# Altium footprint library 112ATAARR03ATTEND.PcbLib: 1 footprints
Each footprint in its own frame and in the unit in brackets; x right, y up, seen from the top. Pads: shape width x height; smd on the part's side, far side on the other; paste and mask are expansions set on the pad; w line width, h text height; cw(c..) or ccw(c..) is an arc to the next point about the centre after c.
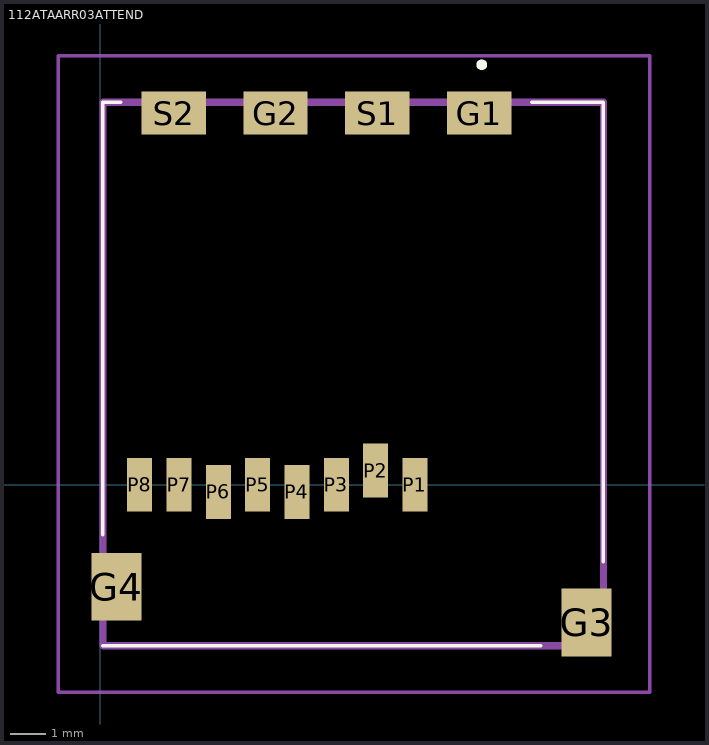
[diagram p0: the footprint, top view; thin cyan lines are the x and y axes]

## 112ATAARR03ATTEND [mm]
pads (14):
  rect 1.8x1.2 smd: G1(10.6,10.4) G2(4.9,10.4) S1(7.75,10.4) S2(2.05,10.4)
  rect 1.4x1.9 smd: G3(13.6,-3.85) G4(0.45,-2.85)
  rect 0.7x1.5 smd: P1(8.8,0) P2(7.7,0.4) P3(6.6,0) P4(5.5,-0.2) P5(4.4,0) P6(3.3,-0.2) P7(2.2,0) P8(1.1,0)
Top Overlay:
  lines w0.1: 0.07,-4.5 12.32,-4.5 ; 0.07,-4.5 12.32,-4.5 ; 0.07,-4.5 0.07,-4.5 ; 0.07,-1.4 0.07,10.7 ; 0.07,-1.4 0.07,-1.4 ; 0.07,-1.4 0.07,10.7 ; 0.07,10.7 0.57,10.7 ; 0.07,10.7 0.07,10.7 ; 0.07,10.7 0.57,10.7 ; 0.07,10.7 0.07,10.7 ; 0.57,10.7 0.57,10.7 ; 12.07,10.7 14.07,10.7 ; 12.07,10.7 12.07,10.7 ; 12.07,10.7 14.07,10.7 ; 12.32,-4.5 12.32,-4.5 ; 14.07,-2.15 14.07,-2.15 ; 14.07,-2.15 14.07,10.7 ; 14.07,-2.15 14.07,10.7 ; 14.07,10.7 14.07,10.7 ; 14.07,10.7 14.07,10.7
  lines w0.2: 10.67,11.7 cw(c10.67,11.75) 10.67,11.8 ; 10.67,11.7 10.67,11.7 ; 10.67,11.7 ccw(c10.67,11.75) 10.67,11.8 ; 10.67,11.7 cw(c10.67,11.75) 10.67,11.8 ; 10.67,11.8 10.67,11.8 ; 10.67,11.8 10.67,11.8
Mechanical 15:
  lines w0.2: 0.07,-4.5 14.07,-4.5 14.07,10.7 0.07,10.7 0.07,-4.5
Mechanical 20:
  lines w0.1: -1.18,-5.8 15.37,-5.8 15.37,12 -1.18,12 -1.18,-5.8